# Altium footprint library Oscillators.PcbLib: 7 footprints
Each footprint in its own frame and in the unit in brackets; x right, y up, seen from the top. Pads: shape width x height; smd on the part's side, far side on the other; paste and mask are expansions set on the pad; w line width, h text height; cw(c..) or ccw(c..) is an arc to the next point about the centre after c.
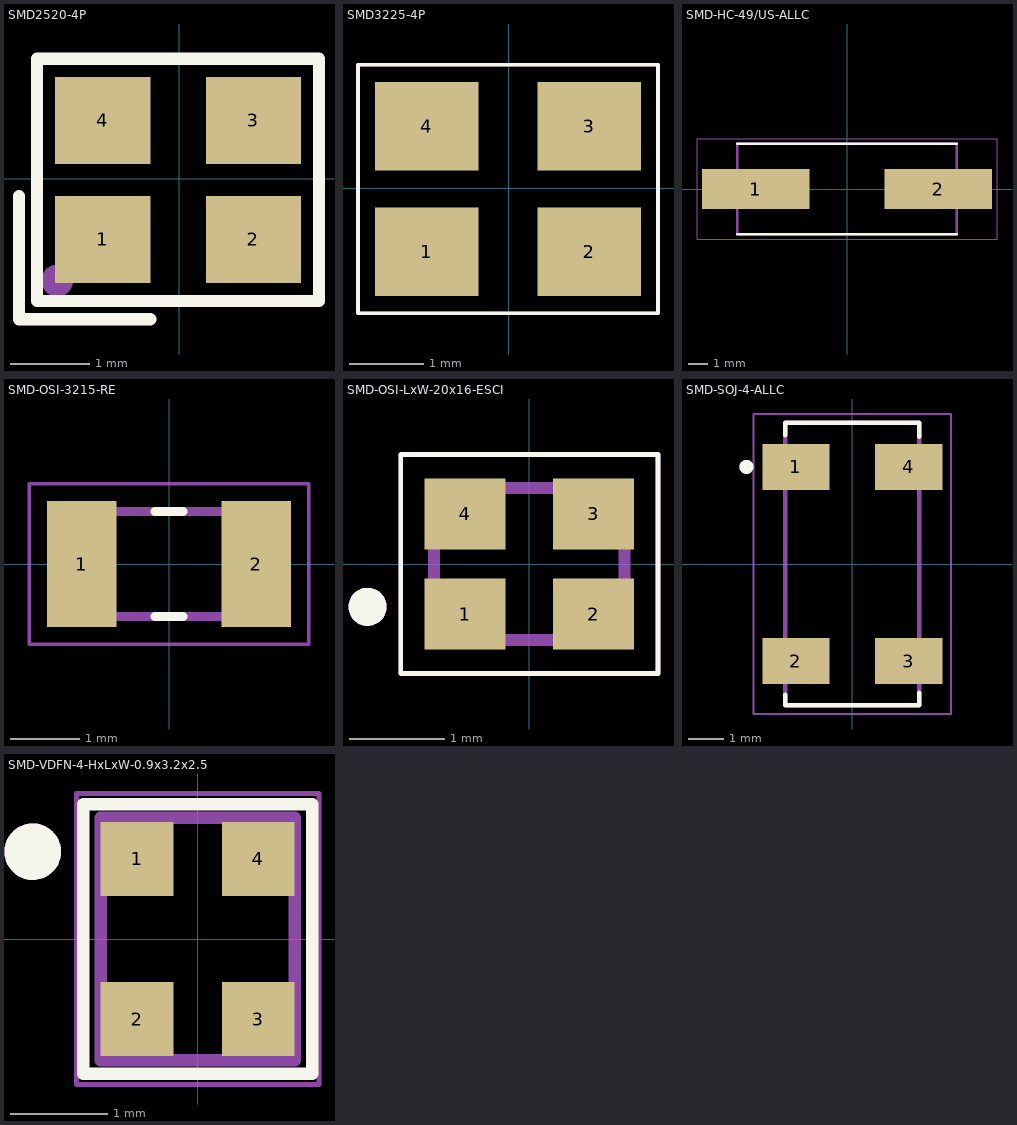
[diagram p0: the footprints below, top view; thin cyan lines are the x and y axes]

## SMD2520-4P [mm]
pads (4):
  rect 1.2x1.1 smd paste+0 mask+0.051: 1(-0.963,-0.762) 2(0.937,-0.762) 3(0.937,0.738) 4(-0.963,0.738)
Top Overlay:
  lines w0.152: -2.02,-0.213 -2.02,-1.77 -0.364,-1.77 ; -1.792,-1.541 -1.792,1.516 1.766,1.516 1.766,-1.541 -1.792,-1.541
Mechanical 15:
  circle w0.2: c-1.537,-1.282 r0.1
3D body "2520 SMD Crystal Oscillator.STEP": height 0.65, standoff -0.05, extent -1.25,-1 1.25,1

## SMD3225-4P [mm]
pads (4):
  rect 1.4x1.2 smd paste+0 mask+0.051: 1(-1.113,-0.863) 2(1.087,-0.863) 3(1.087,0.837) 4(-1.113,0.837)
Top Overlay:
  lines w0.05: -2.041,-1.691 2.016,-1.691 2.016,1.666 -2.041,1.666 -2.041,-1.691
Mechanical 15:
  lines w0.05: -2.041,-1.691 2.016,-1.691 2.016,1.666 -2.041,1.666 -2.041,-1.691
3D body "3225 SMD Crystal Oscillator.STEP": height 0.68, standoff -0.02, extent -1.6,-1.25 1.6,1.25

## SMD-HC-49/US-ALLC [mm]
height 4.2
pads (2):
  rect 5.6x2.1 smd: 1(-4.75,0) 2(4.75,0)
Top Overlay:
  lines w0.127: -5.7,-2.35 5.7,-2.35 ; -5.7,2.35 5.7,2.35
Mechanical 1:
  lines w0.127: -5.7,-2.35 5.7,-2.35 5.7,2.35 -5.7,2.35 -5.7,-2.35
Mechanical 13:
  lines w0.127: -5.7,-2.35 5.7,-2.35 5.7,2.35 -5.7,2.35 -5.7,-2.35
Mechanical 15:
  lines w0.05: -7.8,-2.6 7.8,-2.6 7.8,2.6 -7.8,2.6 -7.8,-2.6
Mechanical 29:
  lines w0.05: -7.8,-2.6 7.8,-2.6 7.8,2.6 -7.8,2.6 -7.8,-2.6
  text "'.Designator'" at -1.651,-0.254 h0.7
3D body "step_temp.STEP": height 4.06, standoff -0.1, extent -6.35,-2.349 6.35,2.349

## SMD-OSI-3215-RE [mm]
height 0.9
pads (2):
  rect 1x1.8 smd: 1(-1.25,0) 2(1.25,0)
Top Overlay:
  lines w0.127: -0.2,-0.75 0.2,-0.75 ; -0.2,0.75 0.2,0.75
Mechanical 13:
  lines w0.127: -1.6,-0.75 -1.6,0.75 1.6,0.75 1.6,-0.75 -1.6,-0.75
Mechanical 15:
  lines w0.05: -2,-1.15 -2,1.15 2,1.15 2,-1.15 -2,-1.15
3D body "step_temp.STEP": height 0.9, standoff 0, extent -1.6,-0.75 1.6,0.75

## SMD-OSI-LxW-20x16-ESCI [mm]
pads (4):
  rect 0.85x0.75 smd: 1(-0.675,-0.525) 2(0.675,-0.525) 3(0.675,0.525) 4(-0.675,0.525)
Top Overlay:
  circle w0.2: c-1.7,-0.45 r0.1
  lines w0.05: -1.35,-1.15 -1.35,1.15 1.35,1.15 1.35,-1.15 -1.35,-1.15
Mechanical 1:
  lines w0.127: -1,-0.8 -1,0.8 1,0.8 1,-0.8 -1,-0.8
Mechanical 13:
  circle w0.2: c-1.7,-0.45 r0.1
  lines w0.127: -1,-0.8 -1,0.8 1,0.8 1,-0.8 -1,-0.8
Mechanical 15:
  lines w0.05: -1.35,-1.15 -1.35,1.15 1.35,1.15 1.35,-1.15 -1.35,-1.15
Mechanical 29:
  lines w0.05: -1.35,-1.15 -1.35,1.15 1.35,1.15 1.35,-1.15 -1.35,-1.15
  text "'.Designator'" at -1.27,-0.127 h0.5
3D body "ECS-390-CDX-1932-TR3.step": height 0.55, standoff 0, extent -1,-0.8 1,0.8

## SMD-SOJ-4-ALLC [mm]
pads (4):
  rect 1.9x1.3 smd: 1(-1.6,2.75) 2(-1.6,-2.75) 3(1.6,-2.75) 4(1.6,2.75)
Top Overlay:
  circle w0.2: c-3,2.75 r0.1
  lines w0.127: -1.9,-3.7 -1.9,-4 1.9,-4 1.9,-3.65 ; -1.9,3.65 -1.9,4 1.9,4 1.9,3.6
Mechanical 13:
  circle w0.2: c-3,2.75 r0.1
  lines w0.127: -1.9,-4 -1.9,4 1.9,4 1.9,-4 -1.9,-4
Mechanical 15:
  lines w0.05: -2.8,-4.25 -2.8,4.25 2.8,4.25 2.8,-4.25 -2.8,-4.25
3D body "step_temp.STEP": height 2.65, standoff -0.01, extent -2,-4 2,4

## SMD-VDFN-4-HxLxW-0.9x3.2x2.5 [mm]
pads (4):
  rect 0.75x0.76 smd: 1(-0.625,0.825) 2(-0.625,-0.825) 3(0.625,-0.825) 4(0.625,0.825)
Top Overlay:
  circle w0.3: c-1.7,0.9 r0.141
  lines w0.127: -1.18,-1.39 1.18,-1.39 1.18,1.39 -1.18,1.39 -1.18,-1.39
Mechanical 13:
  circle w0.3: c-1.7,0.9 r0.141
  lines w0.127: -1,-1.25 1,-1.25 1,1.25 -1,1.25 -1,-1.25
Mechanical 15:
  lines w0.05: -1.25,-1.5 1.25,-1.5 1.25,1.5 -1.25,1.5 -1.25,-1.5
3D body "DSC1001DI1-025.0000.STEP": height 0.9, standoff 0, extent -1,-1.25 1,1.25